# Altium schematic symbol library Symbol Library.SchLib: 20 symbols
Pins are listed as number, name and electrical type; pins without a type are passive.

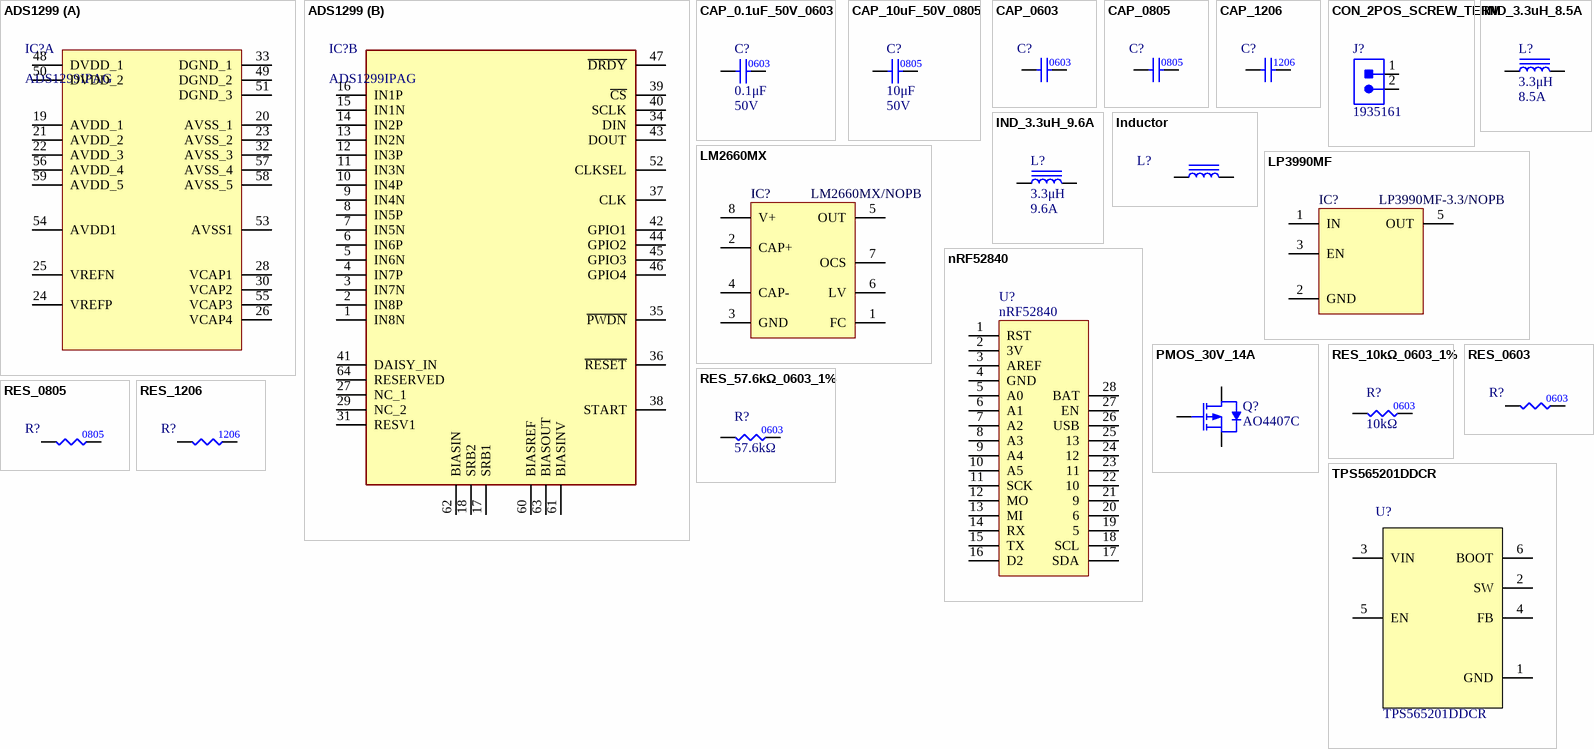
[diagram p0: symbols ADS1299 to TPS565201DDCR]

## ADS1299
designator IC?, comment ADS1299IPAG
Integrated Circuit; Manufacturer: Texas Instruments; Height: 1.2mm; Manufacturer Part Number: ADS1299IPAG; ComponentLink1Description: Datasheet; ComponentLink1URL: http://www.ti.com/lit/ds/symlink/ads1299.pdf; Supplier 1: Mouser; Supplier Part Number 1: 595-ADS1299IPAGR
footprint QFP50P1200X1200X120-64N
part A pins: 19 AVDD_1 "Analog supply. Connect a 1-μF capacitor to AVSS", 20 AVSS_1, 21 AVDD_2 "Analog supply. Connect a 1-μF capacitor to AVSS", 22 AVDD_3 "Analog supply. Connect a 1-μF capacitor to AVSS", 23 AVSS_2, 24 VREFP, 25 VREFN, 26 VCAP4, 28 VCAP1, 30 VCAP2, 32 AVSS_3, 33 DGND_1, 48 DVDD_1, 49 DGND_2, 50 DVDD_2, 51 DGND_3, 53 AVSS1 "Analog ground", 54 AVDD1 "Analog supply. Connect a 1-μF capacitor to AVSS1", 55 VCAP3, 56 AVDD_4 "Analog supply. Connect a 1-μF capacitor to AVSS", 57 AVSS_4, 58 AVSS_5, 59 AVDD_5 "Analog supply. Connect a 1-μF capacitor to AVSS"
part B pins: 1 IN8N, 2 IN8P, 3 IN7N, 4 IN7P, 5 IN6N, 6 IN6P, 7 IN5N, 8 IN5P, 9 IN4N, 10 IN4P, 11 IN3N, 12 IN3P, 13 IN2N, 14 IN2P, 15 IN1N, 16 IN1P, 17 SRB1, 18 SRB2, 27 NC_1, 29 NC_2, 31 RESV1, 34 DIN, 35 ~{PWDN}, 36 ~{RESET}, 37 CLK, 38 START, 39 ~{CS}, 40 SCLK, 41 DAISY_IN, 42 GPIO1, 43 DOUT, 44 GPIO2, 45 GPIO3, 46 GPIO4, 47 ~{DRDY}, 52 CLKSEL, 60 BIASREF, 61 BIASINV, 62 BIASIN, 63 BIASOUT, 64 RESERVED

## CAP_0.1uF_50V_0603
designator C?  value 0.1μF  Voltage: 50V
CAP CER 0.1uF 50V X7R 0603; Manufacturer 1: KEMET; Manufacturer Part Number 1: C0603C104K5RACAUTO; Tolerance: 10%; Supplier 1: LCSC; Supplier Part Number 1: C129621; Temperature Coefficient: X7R; Package: 0603; Mounting Type: Surface Mount; LCSC Part #: C129621
footprint CAP0603
pins: 1, 2

## CAP_10uF_50V_0805
designator C?  value 10μF  Voltage: 50V
CAP CER 10UF 50V X5R 0805; Manufacturer 1: Murata Electronics; Manufacturer Part Number 1: GRM21BR61H106KE43L; Tolerance: 10%; Supplier 1: LCSC; Supplier Part Number 1: C440198; Supplier 2: Digi-Key; Supplier Part Number 2: 490-18663-1-ND; Temperature Coefficient: X5R; Package: 0805; Mounting Type: Surface Mount; LCSC Part #: C440198
footprint CAP0805 (Chip Capacitor, Body 2.0x1.2mm, Height 0.45mm, IPC Medium Density)
pins: 1, 2

## CAP_0603
designator C?
Generic 0603 cap; Manufacturer 1: *; Manufacturer Part Number 1: *; Supplier 1: *; Supplier Part Number 1: *; Value: *; Voltage Rating: *; Package: 0603; Mounting Type: Surface Mount
footprint CAP0603
pins: 1, 2

## CAP_0805
designator C?
Generic 0805 cap
footprint CAP0805 (Chip Capacitor, Body 2.0x1.2mm, Height 0.45mm, IPC Medium Density)
pins: 1, 2
text: 0805

## CAP_1206
designator C?
Generic 1206 cap
footprint CAP1206 (Chip Capacitor, Body 3.2x1.6mm, Height 0.55mm, IPC Medium Density)
pins: 1, 2
text: 1206

## CON_2POS_SCREW_TERM
designator J?  Manufacturer Part Number 1: 1935161
TERM BLK 2POS SIDE ENTRY 5MM; Manufacturer 1: Phoenix Contact; Supplier 1: Digi-Key; Mounting Type: TH; Package: SMD; Supplier Part Number 1: 277-1667-ND
footprint 1935161 (TERM BLK 2POS SIDE ENTRY 5MM PCB)
pins: 1, 2

## IND_3.3uH_8.5A
designator L?  value 3.3μH  Current Rating: 8.5A
IND 3.3UH 8.5A 22M OHM; Manufacturer 1: Shun Xiang Nuo Elec; Manufacturer Part Number 1: SMMS0650-3R3M; Saturation Current: 9A; DC Resistance: 20mΩ; Mounting Type: Surface Mount; Supplier 1: LCSC; Supplier Part Number 1: C149581; LCSC Part #: C149581
footprint SMMS0650-3R3M
pins: 1, 2

## IND_3.3uH_9.6A
designator L?  value 3.3μH  Current Rating: 9.6A
IND 3.3UH 9.6A 10M OHM; Manufacturer 1: Gotrend Tech; Manufacturer Part Number 1: GSDRK127P-3R3M; Saturation Current: 18A; DC Resistance: 10mΩ; Mounting Type: Surface Mount; Supplier 1: LCSC; Supplier Part Number 1: C142419
footprint GSDRK127P-3R3M
pins: 1, 2

## Inductor
designator L?
Generic inductor
pins: 1, 2

## LM2660MX
designator IC?, comment LM2660MX/NOPB
IC REG CHARGE PUMP INV 8SOIC; Manufacturer: Texas Instruments; Input Voltage: 1.5V - 5.5V; Output Current: 100mA; Manufacturer Part Number: LM2660MX/NOPB; Topology: Charge Pump; Supplier 1: Mouser; Supplier Part Number 1: 926-LM2660MX/NOPB; Supplier 2: Digi-Key; Supplier Part Number 2: LM2660MX/NOPBCT-ND; Supplier 3: LCSC; Supplier Part Number 3: C183083; ComponentLink1Description: Datasheet; ComponentLink1URL: https://www.ti.com/lit/ds/symlink/lm2660.pdf?HQS=dis-mous-null-mousermode-dsf-pf-null-wwe&ts=1633188209511&ref_url=https%253A%252F%252Feu.mouser.com%252F
footprint SOIC127P599X175-8N
pins: 1 FC, 2 CAP+, 3 GND, 4 CAP-, 5 OUT, 6 LV, 7 OCS, 8 V+

## LP3990MF
designator IC?, comment LP3990MF-3.3/NOPB
IC REG LINEAR 3.3V 150MA SOT23-5; Manufacturer: Texas Instruments; Input Voltage: 6V; Manufacturer Part Number: LP3990MF-3.3/NOPB; Output Current: 150mA; Topology: Linear; ComponentLink1Description: Datasheet; ComponentLink1URL: https://www.ti.com/lit/ds/symlink/lp3990.pdf?ts=1633191563532; Output Voltage: 3.3V; Supplier 1: Mouser; Supplier Part Number 1: 926-LP3990MF-3.3NOPB; Supplier 2: Digi-Key; Supplier Part Number 2: LP3990MF-3.3/NOPBCT-ND
footprint SOT95P280X145-5N
pins: 1 IN, 2 GND, 3 EN, 5 OUT

## nRF52840
designator U?
FEATHER NRF52840 SENSE; Manufacturer Part Number: nRF52840; Supplier 1: Mouser; Supplier Part Number 1: 485-4516; Supplier 2: Digi-Key; Supplier Part Number 2: 1528-4516-ND; ComponentLink1Description: Datasheet; ComponentLink1URL: https://cdn-learn.adafruit.com/downloads/pdf/adafruit-feather-sense.pdf
footprint nRF52840
pins: 1 RST, 2 3V, 3 AREF, 4 GND, 5 A0, 6 A1, 7 A2, 8 A3, 9 A4, 10 A5, 11 SCK, 12 MO, 13 MI, 14 RX, 15 TX, 16 D2, 17 SDA, 18 SCL, 19 5, 20 6, 21 9, 22 10, 23 11, 24 12, 25 13, 26 USB, 27 EN, 28 BAT

## PMOS_30V_14A
designator Q?  Manufacturer Part Number 1: AO4407C
MOSFET P-CH 30V 14A SO-8; Manufacturer 1: Alpha & Omega Semicon; Max Power Dissipation: 3.1W; Supplier 1: LCSC; Supplier Part Number 1: C469397; Package: SO-8; LCSC Part #: C469397
pins: 1 Source, 2 Gate, 3 Drain

## RES_10kΩ_0603_1%
designator R?  value 10kΩ
RES 10K OHM 1% 1/10W 0603; Manufacturer 1: Uniroyal Elec; Manufacturer Part Number 1: 0603WAF1002T5E; Supplier 1: LCSC; Supplier Part Number 1: C25804; Tolerance: 1%; Package: 0603; Mounting Type: Surface Mount; LCSC Part #: C25804
footprint RES0603 (Chip Resistor, Body 1.6x0.8mm, IPC Medium Density)
pins: 1, 2

## RES_57.6kΩ_0603_1%
designator R?  value 57.6kΩ
RES 57.6K OHM 1% 1/10W 0603; Manufacturer 1: Uniroyal Elec; Manufacturer Part Number 1: 0603WAF5762T5E; Supplier 1: LCSC; Supplier Part Number 1: C23082; Tolerance: 1%; Package: 0603; Mounting Type: Surface Mount; LCSC Part #: C23082
footprint RES0603 (Chip Resistor, Body 1.6x0.8mm, IPC Medium Density)
pins: 1, 2

## RES_0603
designator R?
Generic 0603 resistor
footprint RES0603 (Chip Resistor, Body 1.6x0.8mm, IPC Medium Density)
pins: 1, 2
text: 0603

## RES_0805
designator R?
Generic 0805 resistor
footprint RES0805 (Chip Resistor, 2-Leads, Body 2.00x1.25mm, IPC High Density)
pins: 1, 2
text: 0805

## RES_1206
designator R?
Generic 1206 resistor
footprint RES1206 (Chip Resistor, Body 3.2x1.6mm, IPC Medium Density)
pins: 1, 2
text: 1206

## TPS565201DDCR
designator U?  Manufacturer Part Number: TPS565201DDCR
IC REG BUCK ADJ 5A TSOT23-6; Manufacturer: Texas Instruments; Supplier 1: LCSC; Supplier Part Number 1: C327676; Mounting Type: Surface Mount; Package: SOT-23-6; Supplier 2: Digi-Key; Supplier Part Number 2: 296-49006-1-ND; LCSC Part #: C327676
footprint TPS565201DDCR (IC REG BUCK ADJ 5A TSOT23-6)
pins: 1 GND "Ground", 2 SW "Switch node", 3 VIN "Input voltage", 4 FB "Feedback", 5 EN "Enable. Active high", 6 BOOT "Bootstrap"